# Altium integrated library NSC Interface.IntLib: 481 symbols (part 8 of 16)
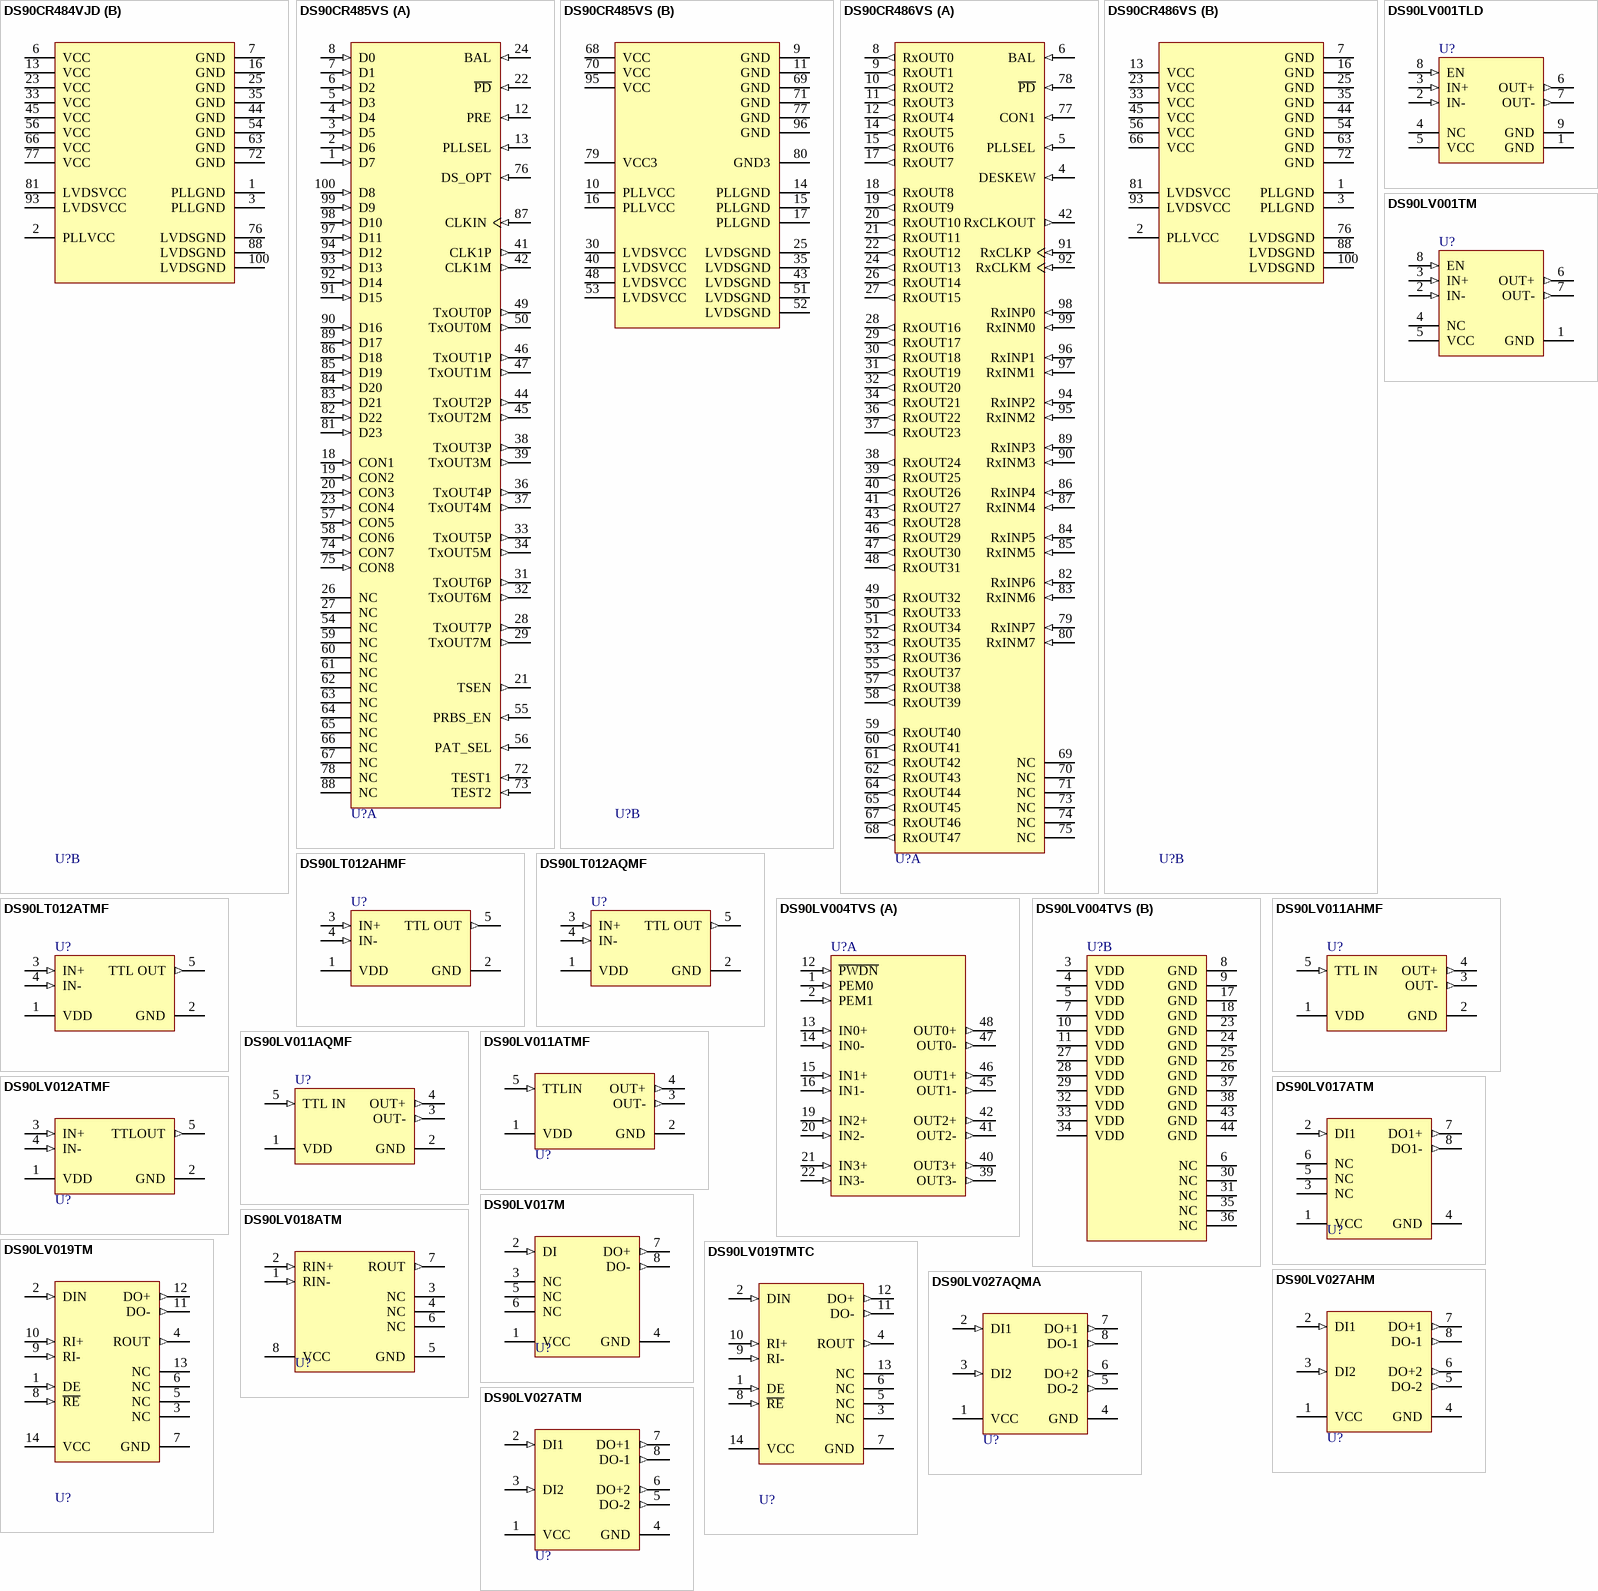
[diagram p47: symbols DS90CR484VJD to DS90LV027ATM]

## DS90LV027ATM
designator U?
LVDS Dual High Speed Differential Driver; PartNumber: DS90LV027ATM; Manufacturer: National Semiconductor; CompType: Interface IC; PackageTopMarking: NSZXTT*LV27A*TM; Published: 4-Dec-2008; DatasheetVersion: Aug-2005; PackageVersion: revL, Sep-2006; PackageReference: M08A; Publisher: Altium Limited; PackageDescription: SOIC Narrow, 4.9 x 3.9 x 1.45mm, 8 Lead, 1.27mm Pitch; RoHS: O; PinCount: 8; DigiKeyPartNumber: DS90LV027ATM-ND; Code_JEDEC: MS-012-AA; Code_IPC: SOIC127P600-8; ComponentLink1Description: DS90LV027A Datasheet; ComponentLink1URL: http://www.national.com/ds/DS/DS90LV027A.pdf; ComponentLink2Description: DS90LV027A Web Page; ComponentLink2URL: http://www.national.com/pf/DS/DS90LV027A.html; ComponentLink3Description: M08A Package Page; ComponentLink3URL: http://www.national.com/packaging/folders/m08a.html
footprint M08A_N (SOIC, 8-Leads, Body 4.9x3.9mm, Pitch 1.27mm, IPC Medium Density)
footprint M08A_L (SOIC, 8-Leads, Body 4.9x3.9mm, Pitch 1.27mm, IPC High Density)
footprint M08A_M (SOIC, 8-Leads, Body 4.9x3.9mm, Pitch 1.27mm, IPC Low Density)
pins: 1 VCC (power), 2 DI1 (in), 3 DI2 (in), 4 GND (power), 5 DO-2 (out), 6 DO+2 (out), 7 DO+1 (out), 8 DO-1 (out)

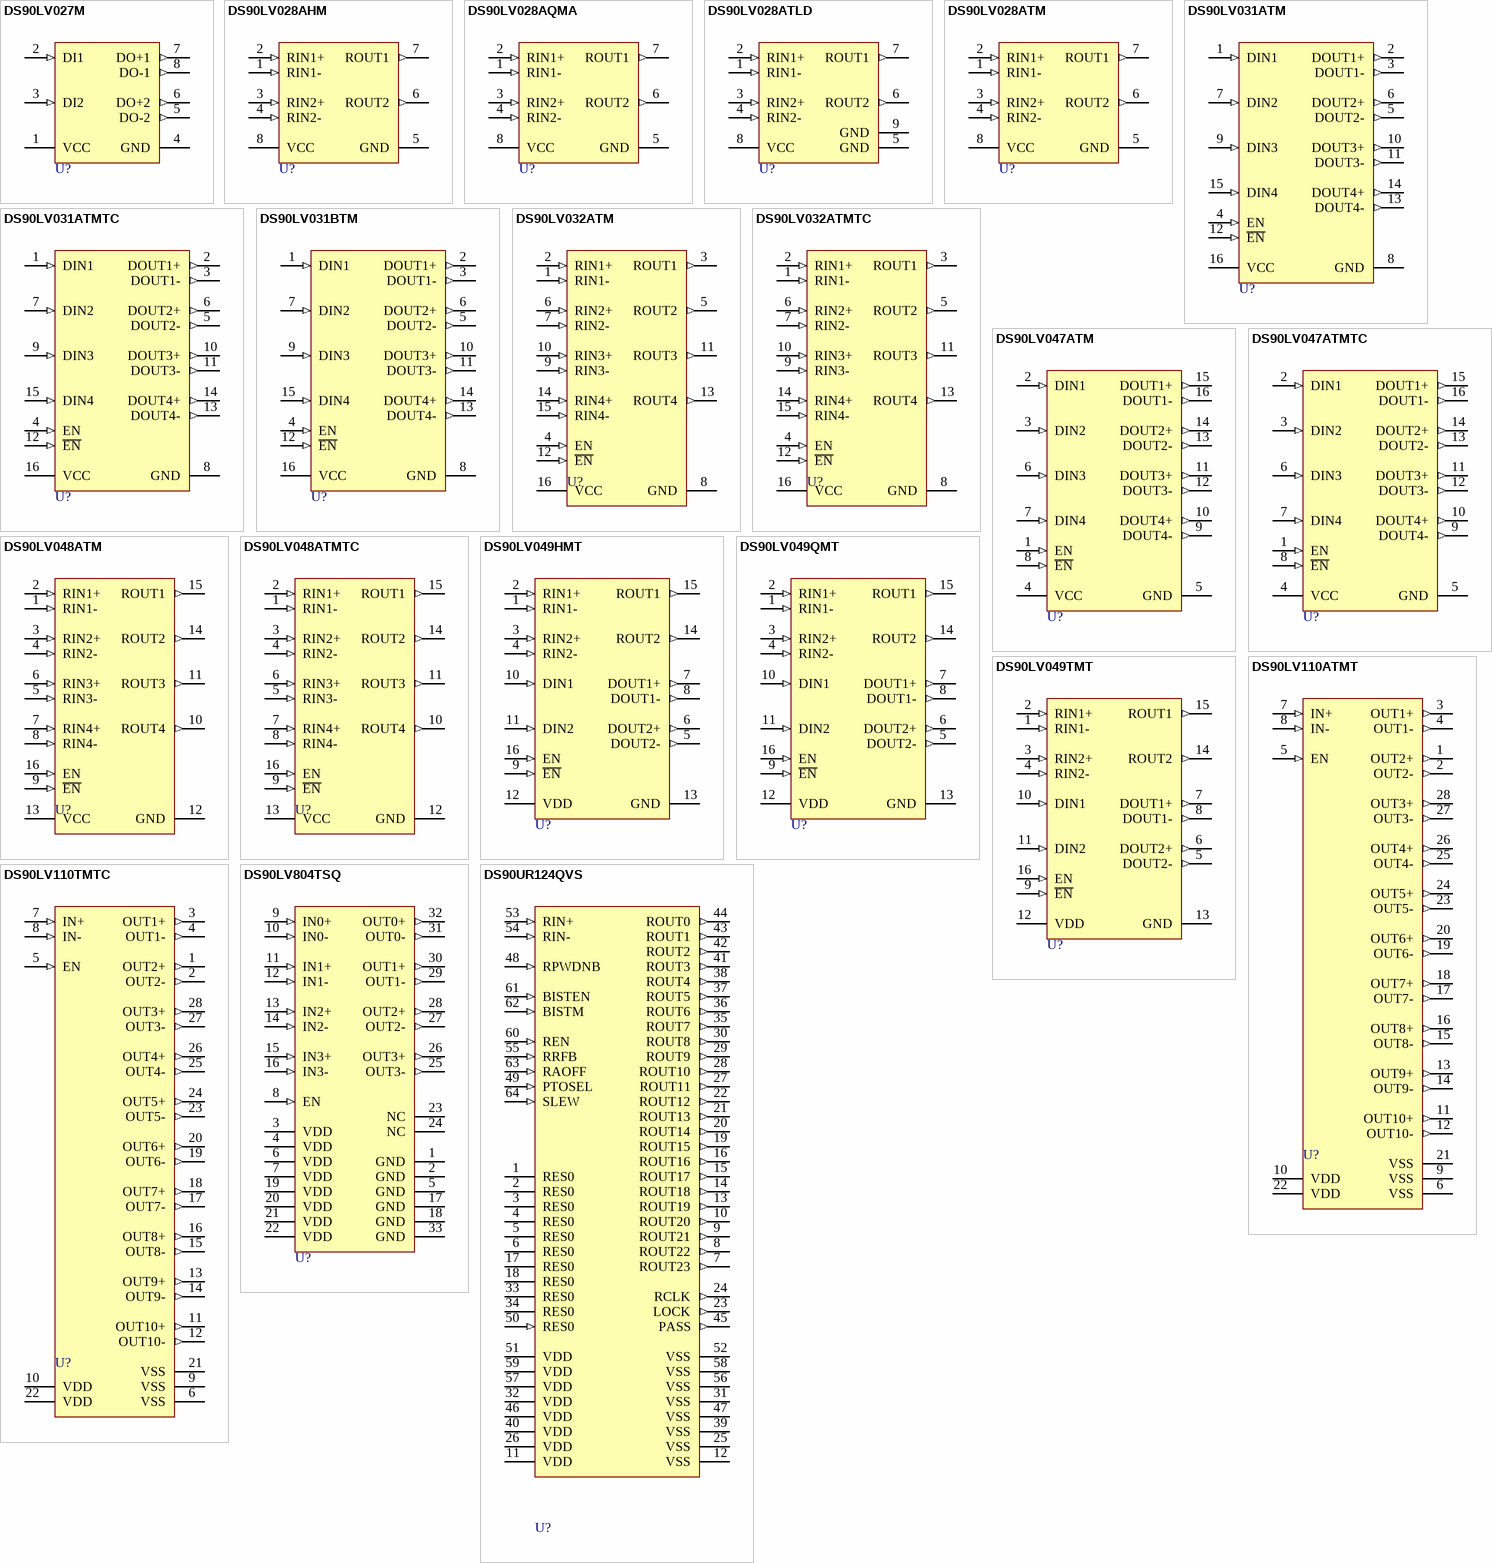
[diagram p21: symbols DS90LV027M to DS90UR124QVS]

## DS90LV027M
designator U?
LVDS Dual High Speed Differential Driver; PartNumber: DS90LV027M; Manufacturer: National Semiconductor; CompType: Interface IC; PackageTopMarking: NSZXTT*90LV*027M; Published: 4-Dec-2008; DatasheetVersion: Aug-2005; PackageVersion: revL, Sep-2006; PackageReference: M08A; Publisher: Altium Limited; PackageDescription: SOIC Narrow, 4.9 x 3.9 x 1.45mm, 8 Lead, 1.27mm Pitch; RoHS: Y; PinCount: 8; DigiKeyPartNumber: DS90LV027M-ND; Code_JEDEC: MS-012-AA; Code_IPC: SOIC127P600-8; ComponentLink1Description: DS90LV027 Datasheet; ComponentLink1URL: http://www.national.com/ds/DS/DS90LV027.pdf; ComponentLink2Description: DS90LV027 Web Page; ComponentLink2URL: http://www.national.com/pf/DS/DS90LV027.html; ComponentLink3Description: M08A Package Page; ComponentLink3URL: http://www.national.com/packaging/folders/m08a.html
footprint M08A_N (SOIC, 8-Leads, Body 4.9x3.9mm, Pitch 1.27mm, IPC Medium Density)
footprint M08A_L (SOIC, 8-Leads, Body 4.9x3.9mm, Pitch 1.27mm, IPC High Density)
footprint M08A_M (SOIC, 8-Leads, Body 4.9x3.9mm, Pitch 1.27mm, IPC Low Density)
pins: 1 VCC (power), 2 DI1 (in), 3 DI2 (in), 4 GND (power), 5 DO-2 (out), 6 DO+2 (out), 7 DO+1 (out), 8 DO-1 (out)

## DS90LV028AHM
designator U?
High Temperature 3V LVDS Dual CMOS Differential Line Receiver; PartNumber: DS90LV028AHM; Manufacturer: National Semiconductor; CompType: Interface IC; PackageTopMarking: NSZXTT*90LV0*28AHM; Published: 4-Dec-2008; DatasheetVersion: Sep-2005; PackageVersion: revL, Sep-2006; PackageReference: M08A; Publisher: Altium Limited; PackageDescription: SOIC Narrow, 4.9 x 3.9 x 1.45mm, 8 Lead, 1.27mm Pitch; RoHS: Y; PinCount: 8; DigiKeyPartNumber: DS90LV028AHM-ND; Code_JEDEC: MS-012-AA; Code_IPC: SOIC127P600-8; ComponentLink1Description: DS90LV028AH Datasheet; ComponentLink1URL: http://www.national.com/ds/DS/DS90LV028AH.pdf; ComponentLink2Description: DS90LV028AH Web Page; ComponentLink2URL: http://www.national.com/pf/DS/DS90LV028AH.html; ComponentLink3Description: M08A Package Page; ComponentLink3URL: http://www.national.com/packaging/folders/m08a.html
footprint M08A_N (SOIC, 8-Leads, Body 4.9x3.9mm, Pitch 1.27mm, IPC Medium Density)
footprint M08A_L (SOIC, 8-Leads, Body 4.9x3.9mm, Pitch 1.27mm, IPC High Density)
footprint M08A_M (SOIC, 8-Leads, Body 4.9x3.9mm, Pitch 1.27mm, IPC Low Density)
pins: 1 RIN1- (in), 2 RIN1+ (in), 3 RIN2+ (in), 4 RIN2- (in), 5 GND (power), 6 ROUT2 (out), 7 ROUT1 (out), 8 VCC (power)

## DS90LV028AQMA
designator U?
Automotive LVDS Dual Differential Line Receiver; PartNumber: DS90LV028AQMA; Manufacturer: National Semiconductor; CompType: Interface IC; PackageTopMarking: NSZXTT*90LV0*28AQM; Published: 4-Dec-2008; DatasheetVersion: Oct-2008; PackageVersion: revL, Sep-2006; PackageReference: M08A; Publisher: Altium Limited; RoHS: Y; PinCount: 8; DigiKeyPartNumber: DS90LV028AQMA-ND; Code_JEDEC: MS-012-AA; Code_IPC: SOIC127P600-8; ComponentLink1Description: DS90LV028AQ Datasheet; ComponentLink1URL: http://www.national.com/ds/DS/DS90LV028AQ.pdf; ComponentLink2Description: DS90LV028AQ Web Page; ComponentLink2URL: http://www.national.com/pf/DS/DS90LV028AQ.html; ComponentLink3Description: M08A Package Page; ComponentLink3URL: http://www.national.com/packaging/folders/m08a.html
footprint M08A_N (SOIC, 8-Leads, Body 4.9x3.9mm, Pitch 1.27mm, IPC Medium Density)
footprint M08A_L (SOIC, 8-Leads, Body 4.9x3.9mm, Pitch 1.27mm, IPC High Density)
footprint M08A_M (SOIC, 8-Leads, Body 4.9x3.9mm, Pitch 1.27mm, IPC Low Density)
pins: 1 RIN1- (in), 2 RIN1+ (in), 3 RIN2+ (in), 4 RIN2- (in), 5 GND (power), 6 ROUT2 (out), 7 ROUT1 (out), 8 VCC (power)

## DS90LV028ATLD
designator U?
3V LVDS Dual CMOS Differential Line Receiver; PartNumber: DS90LV028ATLD; Manufacturer: National Semiconductor; CompType: Interface IC; PackageTopMarking: NS*2ZXYTT*LV028AT; Published: 4-Dec-2008; DatasheetVersion: Aug-2005; PackageVersion: revB, Jun-2003; PackageReference: LDC08A; Publisher: Altium Limited; PackageDescription: LLP, Plastic, Dual, 4 x 4 x 0.75mm Body, 8 Lead, 0.8mm Pitch; RoHS: Y; PinCount: 8; DigiKeyPartNumber: DS90LV028ATLDTR-ND; ComponentLink1Description: DS90LV028A Datasheet; ComponentLink1URL: http://www.national.com/ds/DS/DS90LV028A.pdf; ComponentLink2Description: DS90LV028A Web Page; ComponentLink2URL: http://www.national.com/pf/DS/DS90LV028A.html; ComponentLink3Description: LDC08A Package Page; ComponentLink3URL: http://www.national.com/packaging/folders/ldc08a.html
footprint LDC08A (PSON, 8-Leads, Body 4x4mm, Pitch 0.8mm, NSC Recommended)
pins: 1 RIN1- (in), 2 RIN1+ (in), 3 RIN2+ (in), 4 RIN2- (in), 5 GND (power), 6 ROUT2 (out), 7 ROUT1 (out), 8 VCC (power), 9 GND (power)

## DS90LV028ATM
designator U?
3V LVDS Dual CMOS Differential Line Receiver; PartNumber: DS90LV028ATM; Manufacturer: National Semiconductor; CompType: Interface IC; PackageTopMarking: NSZXTT*90LV0*28ATM; Published: 4-Dec-2008; DatasheetVersion: Aug-2005; PackageVersion: revL, Sep-2006; PackageReference: M08A; Publisher: Altium Limited; PackageDescription: SOIC Narrow, 4.9 x 3.9 x 1.45mm, 8 Lead, 1.27mm Pitch; RoHS: O; PinCount: 8; DigiKeyPartNumber: DS90LV028ATM-ND; Code_JEDEC: MS-012-AA; Code_IPC: SOIC127P600-8; ComponentLink1Description: DS90LV028A Datasheet; ComponentLink1URL: http://www.national.com/ds/DS/DS90LV028A.pdf; ComponentLink2Description: DS90LV028A Web Page; ComponentLink2URL: http://www.national.com/pf/DS/DS90LV028A.html; ComponentLink3Description: M08A Package Page; ComponentLink3URL: http://www.national.com/packaging/folders/m08a.html
footprint M08A_N (SOIC, 8-Leads, Body 4.9x3.9mm, Pitch 1.27mm, IPC Medium Density)
footprint M08A_L (SOIC, 8-Leads, Body 4.9x3.9mm, Pitch 1.27mm, IPC High Density)
footprint M08A_M (SOIC, 8-Leads, Body 4.9x3.9mm, Pitch 1.27mm, IPC Low Density)
pins: 1 RIN1- (in), 2 RIN1+ (in), 3 RIN2+ (in), 4 RIN2- (in), 5 GND (power), 6 ROUT2 (out), 7 ROUT1 (out), 8 VCC (power)

## DS90LV031ATM
designator U?
3V LVDS Quad CMOS Differential Line Driver; PartNumber: DS90LV031ATM; Manufacturer: National Semiconductor; CompType: Interface IC; PackageTopMarking: NS2ZXYTT*DS90LV031A*TM; Published: 4-Dec-2008; DatasheetVersion: Jul-1999; PackageVersion: revJ, Aug-1995; PackageReference: M16A; Publisher: Altium Limited; PackageDescription: Molded Package, S.O., .150in Wide, 16 Lead; RoHS: O; PinCount: 16; DigiKeyPartNumber: DS90LV031ATM-ND; Code_JEDEC: MS-012-AC; Code_IPC: SOIC127P600-16; ComponentLink1Description: DS90LV031A Datasheet; ComponentLink1URL: http://www.national.com/ds/DS/DS90LV031A.pdf; ComponentLink2Description: DS90LV031A Web Page; ComponentLink2URL: http://www.national.com/pf/DS/DS90LV031A.html; ComponentLink3Description: M16A Package Page; ComponentLink3URL: http://www.national.com/packaging/folders/m16a.html
footprint M16A_N (SOIC, 16-Leads, Body 9.9x3.9mm, Pitch 1.27mm, IPC Medium Density)
footprint M16A_L (SOIC, 16-Leads, Body 9.9x3.9mm, Pitch 1.27mm, IPC High Density)
footprint M16A_M (SOIC, 16-Leads, Body 9.9x3.9mm, Pitch 1.27mm, IPC Low Density)
pins: 1 DIN1 (in), 2 DOUT1+ (out), 3 DOUT1- (out), 4 EN (in), 5 DOUT2- (out), 6 DOUT2+ (out), 7 DIN2 (in), 8 GND (power), 9 DIN3 (in), 10 DOUT3+ (out), 11 DOUT3- (out), 12 ~{EN} (in), 13 DOUT4- (out), 14 DOUT4+ (out), 15 DIN4 (in), 16 VCC (power)

## DS90LV031ATMTC
designator U?
3V LVDS Quad CMOS Differential Line Driver; PartNumber: DS90LV031ATMTC; Manufacturer: National Semiconductor; CompType: Interface IC; PackageTopMarking: NS2ZXYTT*DS90LV*031AT; Published: 4-Dec-2008; DatasheetVersion: Jul-1999; PackageVersion: revD, Jun-2003; PackageReference: MTC16; Publisher: Altium Limited; PackageDescription: Molded TSSOP, Jedec, 5 x 4.4 x 0.9mm Body, 16 Lead, 0.65mm Pitch; RoHS: O; PinCount: 16; DigiKeyPartNumber: DS90LV031ATMTC-ND; Code_JEDEC: MO-153-AB; ComponentLink1Description: DS90LV031A Datasheet; ComponentLink1URL: http://www.national.com/ds/DS/DS90LV031A.pdf; ComponentLink2Description: DS90LV031A Web Page; ComponentLink2URL: http://www.national.com/pf/DS/DS90LV031A.html; ComponentLink3Description: MTC16 Package Page; ComponentLink3URL: http://www.national.com/packaging/folders/mtc16.html
footprint MTC16_N (TSOP, 16-Leads, Body 5x4.4mm, Pitch 0.65mm, IPC Medium Density)
footprint MTC16_L (TSOP, 16-Leads, Body 5x4.4mm, Pitch 0.65mm, IPC High Density)
footprint MTC16_M (TSOP, 16-Leads, Body 5x4.4mm, Pitch 0.65mm, IPC Low Density)
pins: 1 DIN1 (in), 2 DOUT1+ (out), 3 DOUT1- (out), 4 EN (in), 5 DOUT2- (out), 6 DOUT2+ (out), 7 DIN2 (in), 8 GND (power), 9 DIN3 (in), 10 DOUT3+ (out), 11 DOUT3- (out), 12 ~{EN} (in), 13 DOUT4- (out), 14 DOUT4+ (out), 15 DIN4 (in), 16 VCC (power)

## DS90LV031BTM
designator U?
3V LVDS Quad CMOS Differential Line Driver; PartNumber: DS90LV031BTM; Manufacturer: National Semiconductor; CompType: Interface IC; PackageTopMarking: NS2ZXYTT*DS90LV031B*TM; Published: 4-Dec-2008; DatasheetVersion: Apr-2008; PackageVersion: revJ, Aug-1995; PackageReference: M16A; Publisher: Altium Limited; PackageDescription: Molded Package, S.O., .150in Wide, 16 Lead; RoHS: O; PinCount: 16; DigiKeyPartNumber: DS90LV031BTM-ND; Code_JEDEC: MS-012-AC; Code_IPC: SOIC127P600-16; ComponentLink1Description: DS90LV031B Datasheet; ComponentLink1URL: http://www.national.com/ds/DS/DS90LV031B.pdf; ComponentLink2Description: DS90LV031B Web Page; ComponentLink2URL: http://www.national.com/pf/DS/DS90LV031B.html; ComponentLink3Description: M16A Package Page; ComponentLink3URL: http://www.national.com/packaging/folders/m16a.html
footprint M16A_N (SOIC, 16-Leads, Body 9.9x3.9mm, Pitch 1.27mm, IPC Medium Density)
footprint M16A_L (SOIC, 16-Leads, Body 9.9x3.9mm, Pitch 1.27mm, IPC High Density)
footprint M16A_M (SOIC, 16-Leads, Body 9.9x3.9mm, Pitch 1.27mm, IPC Low Density)
pins: 1 DIN1 (in), 2 DOUT1+ (out), 3 DOUT1- (out), 4 EN (in), 5 DOUT2- (out), 6 DOUT2+ (out), 7 DIN2 (in), 8 GND (power), 9 DIN3 (in), 10 DOUT3+ (out), 11 DOUT3- (out), 12 ~{EN} (in), 13 DOUT4- (out), 14 DOUT4+ (out), 15 DIN4 (in), 16 VCC (power)

## DS90LV032ATM
designator U?
3V LVDS Quad CMOS Differential Line Receiver; PartNumber: DS90LV032ATM; Manufacturer: National Semiconductor; CompType: Interface IC; PackageTopMarking: NS2ZXYTT*DS90LV032A*TM; Published: 4-Dec-2008; DatasheetVersion: Jul-1999; PackageVersion: revJ, Aug-1995; PackageReference: M16A; Publisher: Altium Limited; PackageDescription: Molded Package, S.O., .150in Wide, 16 Lead; RoHS: O; PinCount: 16; DigiKeyPartNumber: DS90LV032ATM-ND; Code_JEDEC: MS-012-AC; Code_IPC: SOIC127P600-16; ComponentLink1Description: DS90LV032A Datasheet; ComponentLink1URL: http://www.national.com/ds/DS/DS90LV032A.pdf; ComponentLink2Description: DS90LV032A Web Page; ComponentLink2URL: http://www.national.com/pf/DS/DS90LV032A.html; ComponentLink3Description: M16A Package Page; ComponentLink3URL: http://www.national.com/packaging/folders/m16a.html
footprint M16A_N (SOIC, 16-Leads, Body 9.9x3.9mm, Pitch 1.27mm, IPC Medium Density)
footprint M16A_L (SOIC, 16-Leads, Body 9.9x3.9mm, Pitch 1.27mm, IPC High Density)
footprint M16A_M (SOIC, 16-Leads, Body 9.9x3.9mm, Pitch 1.27mm, IPC Low Density)
pins: 1 RIN1- (in), 2 RIN1+ (in), 3 ROUT1 (out), 4 EN (in), 5 ROUT2 (out), 6 RIN2+ (in), 7 RIN2- (in), 8 GND (power), 9 RIN3- (in), 10 RIN3+ (in), 11 ROUT3 (out), 12 ~{EN} (in), 13 ROUT4 (out), 14 RIN4+ (in), 15 RIN4- (in), 16 VCC (power)

## DS90LV032ATMTC
designator U?
3V LVDS Quad CMOS Differential Line Receiver; PartNumber: DS90LV032ATMTC; Manufacturer: National Semiconductor; CompType: Interface IC; PackageTopMarking: NS2ZXYTT*DS90LV*032AT; Published: 4-Dec-2008; DatasheetVersion: Jul-1999; PackageVersion: revD, Jun-2003; PackageReference: MTC16; Publisher: Altium Limited; PackageDescription: Molded TSSOP, Jedec, 5 x 4.4 x 0.9mm Body, 16 Lead, 0.65mm Pitch; RoHS: O; PinCount: 16; DigiKeyPartNumber: DS90LV032ATMTC-ND; Code_JEDEC: MO-153-AB; ComponentLink1Description: DS90LV032A Datasheet; ComponentLink1URL: http://www.national.com/ds/DS/DS90LV032A.pdf; ComponentLink2Description: DS90LV032A Web Page; ComponentLink2URL: http://www.national.com/pf/DS/DS90LV032A.html; ComponentLink3Description: MTC16 Package Page; ComponentLink3URL: http://www.national.com/packaging/folders/mtc16.html
footprint MTC16_N (TSOP, 16-Leads, Body 5x4.4mm, Pitch 0.65mm, IPC Medium Density)
footprint MTC16_L (TSOP, 16-Leads, Body 5x4.4mm, Pitch 0.65mm, IPC High Density)
footprint MTC16_M (TSOP, 16-Leads, Body 5x4.4mm, Pitch 0.65mm, IPC Low Density)
pins: 1 RIN1- (in), 2 RIN1+ (in), 3 ROUT1 (out), 4 EN (in), 5 ROUT2 (out), 6 RIN2+ (in), 7 RIN2- (in), 8 GND (power), 9 RIN3- (in), 10 RIN3+ (in), 11 ROUT3 (out), 12 ~{EN} (in), 13 ROUT4 (out), 14 RIN4+ (in), 15 RIN4- (in), 16 VCC (power)

## DS90LV047ATM
designator U?
3V LVDS Quad CMOS Differential Line Driver; PartNumber: DS90LV047ATM; Manufacturer: National Semiconductor; CompType: Interface IC; PackageTopMarking: NS2ZXYTT*DS90LV047A*TM; Published: 4-Dec-2008; DatasheetVersion: Jan-2003; PackageVersion: revJ, Aug-1995; PackageReference: M16A; Publisher: Altium Limited; PackageDescription: Molded Package, S.O., .150in Wide, 16 Lead; RoHS: O; PinCount: 16; DigiKeyPartNumber: DS90LV047ATM/DRSN-ND; Code_JEDEC: MS-012-AC; Code_IPC: SOIC127P600-16; ComponentLink1Description: DS90LV047A Datasheet; ComponentLink1URL: http://www.national.com/ds/DS/DS90LV047A.pdf; ComponentLink2Description: DS90LV047A Web Page; ComponentLink2URL: http://www.national.com/pf/DS/DS90LV047A.html; ComponentLink3Description: M16A Package Page; ComponentLink3URL: http://www.national.com/packaging/folders/m16a.html
footprint M16A_N (SOIC, 16-Leads, Body 9.9x3.9mm, Pitch 1.27mm, IPC Medium Density)
footprint M16A_L (SOIC, 16-Leads, Body 9.9x3.9mm, Pitch 1.27mm, IPC High Density)
footprint M16A_M (SOIC, 16-Leads, Body 9.9x3.9mm, Pitch 1.27mm, IPC Low Density)
pins: 1 EN (in), 2 DIN1 (in), 3 DIN2 (in), 4 VCC (power), 5 GND (power), 6 DIN3 (in), 7 DIN4 (in), 8 ~{EN} (in), 9 DOUT4- (out), 10 DOUT4+ (out), 11 DOUT3+ (out), 12 DOUT3- (out), 13 DOUT2- (out), 14 DOUT2+ (out), 15 DOUT1+ (out), 16 DOUT1- (out)

## DS90LV047ATMTC
designator U?
3V LVDS Quad CMOS Differential Line Driver; PartNumber: DS90LV047ATMTC; Manufacturer: National Semiconductor; CompType: Interface IC; PackageTopMarking: NS2ZXYTT*DS90LV*047AT; Published: 4-Dec-2008; DatasheetVersion: Jan-2003; PackageVersion: revD, Jun-2003; PackageReference: MTC16; Publisher: Altium Limited; PackageDescription: Molded TSSOP, Jedec, 5 x 4.4 x 0.9mm Body, 16 Lead, 0.65mm Pitch; RoHS: O; PinCount: 16; DigiKeyPartNumber: DS90LV047ATMTC/DRPB-; Code_JEDEC: MO-153-AB; ComponentLink1Description: DS90LV047A Datasheet; ComponentLink1URL: http://www.national.com/ds/DS/DS90LV047A.pdf; ComponentLink2Description: DS90LV047A Web Page; ComponentLink2URL: http://www.national.com/pf/DS/DS90LV047A.html; ComponentLink3Description: MTC16 Package Page; ComponentLink3URL: http://www.national.com/packaging/folders/mtc16.html
footprint MTC16_N (TSOP, 16-Leads, Body 5x4.4mm, Pitch 0.65mm, IPC Medium Density)
footprint MTC16_L (TSOP, 16-Leads, Body 5x4.4mm, Pitch 0.65mm, IPC High Density)
footprint MTC16_M (TSOP, 16-Leads, Body 5x4.4mm, Pitch 0.65mm, IPC Low Density)
pins: 1 EN (in), 2 DIN1 (in), 3 DIN2 (in), 4 VCC (power), 5 GND (power), 6 DIN3 (in), 7 DIN4 (in), 8 ~{EN} (in), 9 DOUT4- (out), 10 DOUT4+ (out), 11 DOUT3+ (out), 12 DOUT3- (out), 13 DOUT2- (out), 14 DOUT2+ (out), 15 DOUT1+ (out), 16 DOUT1- (out)

## DS90LV048ATM
designator U?
3V LVDS Quad CMOS Differential Line Receiver; PartNumber: DS90LV048ATM; Manufacturer: National Semiconductor; CompType: Interface IC; PackageTopMarking: NS2ZXYTT*DS90LV048A*TM; Published: 4-Dec-2008; DatasheetVersion: May-2001; PackageVersion: revJ, Aug-1995; PackageReference: M16A; Publisher: Altium Limited; PackageDescription: Molded Package, S.O., .150in Wide, 16 Lead; RoHS: O; PinCount: 16; DigiKeyPartNumber: DS90LV048ATM/DRSN-ND; Code_JEDEC: MS-012-AC; Code_IPC: SOIC127P600-16; ComponentLink1Description: DS90LV048A Datasheet; ComponentLink1URL: http://www.national.com/ds/DS/DS90LV048A.pdf; ComponentLink2Description: DS90LV048A Web Page; ComponentLink2URL: http://www.national.com/pf/DS/DS90LV048A.html; ComponentLink3Description: M16A Package Page; ComponentLink3URL: http://www.national.com/packaging/folders/m16a.html
footprint M16A_N (SOIC, 16-Leads, Body 9.9x3.9mm, Pitch 1.27mm, IPC Medium Density)
footprint M16A_L (SOIC, 16-Leads, Body 9.9x3.9mm, Pitch 1.27mm, IPC High Density)
footprint M16A_M (SOIC, 16-Leads, Body 9.9x3.9mm, Pitch 1.27mm, IPC Low Density)
pins: 1 RIN1- (in), 2 RIN1+ (in), 3 RIN2+ (in), 4 RIN2- (in), 5 RIN3- (in), 6 RIN3+ (in), 7 RIN4+ (in), 8 RIN4- (in), 9 ~{EN} (in), 10 ROUT4 (out), 11 ROUT3 (out), 12 GND (power), 13 VCC (power), 14 ROUT2 (out), 15 ROUT1 (out), 16 EN (in)

## DS90LV048ATMTC
designator U?
3V LVDS Quad CMOS Differential Line Receiver; PartNumber: DS90LV048ATMTC; Manufacturer: National Semiconductor; CompType: Interface IC; PackageTopMarking: NS2ZXYTT*DS90LV*048AT; Published: 4-Dec-2008; DatasheetVersion: May-2001; PackageVersion: revD, Jun-2003; PackageReference: MTC16; Publisher: Altium Limited; PackageDescription: Molded TSSOP, Jedec, 5 x 4.4 x 0.9mm Body, 16 Lead, 0.65mm Pitch; RoHS: O; PinCount: 16; DigiKeyPartNumber: DS90LV048ATMTC/DRSN-; Code_JEDEC: MO-153-AB; ComponentLink1Description: DS90LV048A Datasheet; ComponentLink1URL: http://www.national.com/ds/DS/DS90LV048A.pdf; ComponentLink2Description: DS90LV048A Web Page; ComponentLink2URL: http://www.national.com/pf/DS/DS90LV048A.html; ComponentLink3Description: MTC16 Package Page; ComponentLink3URL: http://www.national.com/packaging/folders/mtc16.html
footprint MTC16_N (TSOP, 16-Leads, Body 5x4.4mm, Pitch 0.65mm, IPC Medium Density)
footprint MTC16_L (TSOP, 16-Leads, Body 5x4.4mm, Pitch 0.65mm, IPC High Density)
footprint MTC16_M (TSOP, 16-Leads, Body 5x4.4mm, Pitch 0.65mm, IPC Low Density)
pins: 1 RIN1- (in), 2 RIN1+ (in), 3 RIN2+ (in), 4 RIN2- (in), 5 RIN3- (in), 6 RIN3+ (in), 7 RIN4+ (in), 8 RIN4- (in), 9 ~{EN} (in), 10 ROUT4 (out), 11 ROUT3 (out), 12 GND (power), 13 VCC (power), 14 ROUT2 (out), 15 ROUT1 (out), 16 EN (in)

## DS90LV049HMT
designator U?
High Temperature 3V LVDS Dual Line Driver and Receiver Pair; PartNumber: DS90LV049HMT; Manufacturer: National Semiconductor; CompType: Interface IC; PackageTopMarking: NSUZXYTT*90LV049*HMT; Published: 4-Dec-2008; DatasheetVersion: Sep-2005; PackageVersion: revD, Jun-2003; PackageReference: MTC16; Publisher: Altium Limited; PackageDescription: Molded TSSOP, Jedec, 5 x 4.4 x 0.9mm Body, 16 Lead, 0.65mm Pitch; RoHS: Y; PinCount: 16; DigiKeyPartNumber: DS90LV049HMTXTR-ND; Code_JEDEC: MO-153-AB; ComponentLink1Description: DS90LV049H Datasheet; ComponentLink1URL: http://www.national.com/ds/DS/DS90LV049H.pdf; ComponentLink2Description: DS90LV049H Web Page; ComponentLink2URL: http://www.national.com/pf/DS/DS90LV049H.html; ComponentLink3Description: MTC16 Package Page; ComponentLink3URL: http://www.national.com/packaging/folders/mtc16.html
footprint MTC16_N (TSOP, 16-Leads, Body 5x4.4mm, Pitch 0.65mm, IPC Medium Density)
footprint MTC16_L (TSOP, 16-Leads, Body 5x4.4mm, Pitch 0.65mm, IPC High Density)
footprint MTC16_M (TSOP, 16-Leads, Body 5x4.4mm, Pitch 0.65mm, IPC Low Density)
pins: 1 RIN1- (in), 2 RIN1+ (in), 3 RIN2+ (in), 4 RIN2- (in), 5 DOUT2- (out), 6 DOUT2+ (out), 7 DOUT1+ (out), 8 DOUT1- (out), 9 ~{EN} (in), 10 DIN1 (in), 11 DIN2 (in), 12 VDD (power), 13 GND (power), 14 ROUT2 (out), 15 ROUT1 (out), 16 EN (in)

## DS90LV049QMT
designator U?
Automotive LVDS Dual Line Driver and Receiver Pair; PartNumber: DS90LV049QMT; Manufacturer: National Semiconductor; CompType: Interface IC; PackageTopMarking: NSUZXYTT*90LV049*QMT; Published: 4-Dec-2008; DatasheetVersion: Jul-2008; PackageVersion: revD, Jun-2003; PackageReference: MTC16; Publisher: Altium Limited; RoHS: Y; PinCount: 16; DigiKeyPartNumber: DS90LV049QMT-ND; Code_JEDEC: MO-153-AB; ComponentLink1Description: DS90LV049Q Datasheet; ComponentLink1URL: http://www.national.com/ds/DS/DS90LV049Q.pdf; ComponentLink2Description: DS90LV049Q Web Page; ComponentLink2URL: http://www.national.com/pf/DS/DS90LV049Q.html; ComponentLink3Description: MTC16 Package Page; ComponentLink3URL: http://www.national.com/packaging/folders/mtc16.html
footprint MTC16_N (TSOP, 16-Leads, Body 5x4.4mm, Pitch 0.65mm, IPC Medium Density)
footprint MTC16_L (TSOP, 16-Leads, Body 5x4.4mm, Pitch 0.65mm, IPC High Density)
footprint MTC16_M (TSOP, 16-Leads, Body 5x4.4mm, Pitch 0.65mm, IPC Low Density)
pins: 1 RIN1- (in), 2 RIN1+ (in), 3 RIN2+ (in), 4 RIN2- (in), 5 DOUT2- (out), 6 DOUT2+ (out), 7 DOUT1+ (out), 8 DOUT1- (out), 9 ~{EN} (in), 10 DIN1 (in), 11 DIN2 (in), 12 VDD (power), 13 GND (power), 14 ROUT2 (out), 15 ROUT1 (out), 16 EN (in)

## DS90LV049TMT
designator U?
3V LVDS Dual Line Driver with Dual Line Receiver; PartNumber: DS90LV049TMT; Manufacturer: National Semiconductor; CompType: Interface IC; PackageTopMarking: NSZXYTT*90LV049*TMT; Published: 4-Dec-2008; DatasheetVersion: Mar-2003; PackageVersion: revD, Jun-2003; PackageReference: MTC16; Publisher: Altium Limited; PackageDescription: Molded TSSOP, Jedec, 5 x 4.4 x 0.9mm Body, 16 Lead, 0.65mm Pitch; RoHS: O; PinCount: 16; DigiKeyPartNumber: DS90LV049TMT-ND; Code_JEDEC: MO-153-AB; ComponentLink1Description: DS90LV049 Datasheet; ComponentLink1URL: http://www.national.com/ds/DS/DS90LV049.pdf; ComponentLink2Description: DS90LV049 Web Page; ComponentLink2URL: http://www.national.com/pf/DS/DS90LV049.html; ComponentLink3Description: MTC16 Package Page; ComponentLink3URL: http://www.national.com/packaging/folders/mtc16.html
footprint MTC16_N (TSOP, 16-Leads, Body 5x4.4mm, Pitch 0.65mm, IPC Medium Density)
footprint MTC16_L (TSOP, 16-Leads, Body 5x4.4mm, Pitch 0.65mm, IPC High Density)
footprint MTC16_M (TSOP, 16-Leads, Body 5x4.4mm, Pitch 0.65mm, IPC Low Density)
pins: 1 RIN1- (in), 2 RIN1+ (in), 3 RIN2+ (in), 4 RIN2- (in), 5 DOUT2- (out), 6 DOUT2+ (out), 7 DOUT1+ (out), 8 DOUT1- (out), 9 ~{EN} (in), 10 DIN1 (in), 11 DIN2 (in), 12 VDD (power), 13 GND (power), 14 ROUT2 (out), 15 ROUT1 (out), 16 EN (in)

## DS90LV110ATMT
designator U?
1 to 10 LVDS Data/Clock Distributor with Failsafe; PartNumber: DS90LV110ATMT; Manufacturer: National Semiconductor; CompType: Interface IC; PackageTopMarking: NSUZXYTT*DS90LV*110ATMT; Published: 4-Dec-2008; DatasheetVersion: Oct-2007; PackageVersion: revD, Jan-2005; PackageReference: MTC28; Publisher: Altium Limited; PackageDescription: Molded TSSOP, Jedec, 9.7 x 4.4 x 0.9mm Body, 28 Lead, 0.65mm Pitch; RoHS: O; PinCount: 28; DigiKeyPartNumber: DS90LV110ATMT-ND; Code_JEDEC: MO-153-AE; ComponentLink1Description: DS90LV110AT Datasheet; ComponentLink1URL: http://www.national.com/ds/DS/DS90LV110AT.pdf; ComponentLink2Description: DS90LV110AT Web Page; ComponentLink2URL: http://www.national.com/pf/DS/DS90LV110AT.html; ComponentLink3Description: MTC28 Package Page; ComponentLink3URL: http://www.national.com/packaging/folders/mtc28.html
footprint MTC28_N (TSOP, 28-Leads, Body 9.7x4.4mm, Pitch 0.65mm, IPC Medium Density)
footprint MTC28_L (TSOP, 28-Leads, Body 9.7x4.4mm, Pitch 0.65mm, IPC High Density)
footprint MTC28_M (TSOP, 28-Leads, Body 9.7x4.4mm, Pitch 0.65mm, IPC Low Density)
pins: 1 OUT2+ (out), 2 OUT2- (out), 3 OUT1+ (out), 4 OUT1- (out), 5 EN (in), 6 VSS (power), 7 IN+ (in), 8 IN- (in), 9 VSS (power), 10 VDD (power), 11 OUT10+ (out), 12 OUT10- (out), 13 OUT9+ (out), 14 OUT9- (out), 15 OUT8- (out), 16 OUT8+ (out), 17 OUT7- (out), 18 OUT7+ (out), 19 OUT6- (out), 20 OUT6+ (out), 21 VSS (power), 22 VDD (power), 23 OUT5- (out), 24 OUT5+ (out), 25 OUT4- (out), 26 OUT4+ (out), 27 OUT3- (out), 28 OUT3+ (out)

## DS90LV110TMTC
designator U?
1 to 10 LVDS Data/Clock Distributor; PartNumber: DS90LV110TMTC; Manufacturer: National Semiconductor; CompType: Interface IC; PackageTopMarking: NSUZXYTT*DS90LV*110TMTC; Published: 4-Dec-2008; DatasheetVersion: May-2007; PackageVersion: revD, Jan-2005; PackageReference: MTC28; Publisher: Altium Limited; PackageDescription: Molded TSSOP, Jedec, 9.7 x 4.4 x 0.9mm Body, 28 Lead, 0.65mm Pitch; RoHS: O; PinCount: 28; DigiKeyPartNumber: DS90LV110TMTC-ND; Code_JEDEC: MO-153-AE; ComponentLink1Description: DS90LV110T Datasheet; ComponentLink1URL: http://www.national.com/ds/DS/DS90LV110T.pdf; ComponentLink2Description: DS90LV110T Web Page; ComponentLink2URL: http://www.national.com/pf/DS/DS90LV110T.html; ComponentLink3Description: MTC28 Package Page; ComponentLink3URL: http://www.national.com/packaging/folders/mtc28.html
footprint MTC28_N (TSOP, 28-Leads, Body 9.7x4.4mm, Pitch 0.65mm, IPC Medium Density)
footprint MTC28_L (TSOP, 28-Leads, Body 9.7x4.4mm, Pitch 0.65mm, IPC High Density)
footprint MTC28_M (TSOP, 28-Leads, Body 9.7x4.4mm, Pitch 0.65mm, IPC Low Density)
pins: 1 OUT2+ (out), 2 OUT2- (out), 3 OUT1+ (out), 4 OUT1- (out), 5 EN (in), 6 VSS (power), 7 IN+ (in), 8 IN- (in), 9 VSS (power), 10 VDD (power), 11 OUT10+ (out), 12 OUT10- (out), 13 OUT9+ (out), 14 OUT9- (out), 15 OUT8- (out), 16 OUT8+ (out), 17 OUT7- (out), 18 OUT7+ (out), 19 OUT6- (out), 20 OUT6+ (out), 21 VSS (power), 22 VDD (power), 23 OUT5- (out), 24 OUT5+ (out), 25 OUT4- (out), 26 OUT4+ (out), 27 OUT3- (out), 28 OUT3+ (out)

## DS90LV804TSQ
designator U?
Four-Channel 800 Mbps LVDS Repeater; PartNumber: DS90LV804TSQ; Manufacturer: National Semiconductor; CompType: Interface IC; PackageTopMarking: NS*UZXYTT*804TSQ; Published: 4-Dec-2008; DatasheetVersion: May-2007; PackageVersion: revA, Jul-2004; PackageReference: SQA32A; Publisher: Altium Limited; PackageDescription: LLP, Quad, 5 x 5 x 0.8mm, 32 Lead, 0.5mm Pitch, No Pullback, 3.1 x 3.1mm Exposed Pad; RoHS: Y; PinCount: 32; DigiKeyPartNumber: DS90LV804TSQTR-ND; ComponentLink1Description: DS90LV804 Datasheet; ComponentLink1URL: http://www.national.com/ds/DS/DS90LV804.pdf; ComponentLink2Description: DS90LV804 Web Page; ComponentLink2URL: http://www.national.com/pf/DS/DS90LV804.html; ComponentLink3Description: SQA32A Package Page; ComponentLink3URL: http://www.national.com/packaging/folders/sqa32a.html
footprint SQA32A (QFN, 32-Leads, Body 5x5mm, Pitch 0.5mm, NSC Recommended)
pins: 1 GND (power), 2 GND (power), 3 VDD (power), 4 VDD (power), 5 GND (power), 6 VDD (power), 7 VDD (power), 8 EN (in), 9 IN0+ (in), 10 IN0- (in), 11 IN1+ (in), 12 IN1- (in), 13 IN2+ (in), 14 IN2- (in), 15 IN3+ (in), 16 IN3- (in), 17 GND (power), 18 GND (power), 19 VDD (power), 20 VDD (power), 21 VDD (power), 22 VDD (power), 23 NC, 24 NC, 25 OUT3- (out), 26 OUT3+ (out), 27 OUT2- (out), 28 OUT2+ (out), 29 OUT1- (out), 30 OUT1+ (out), 31 OUT0- (out), 32 OUT0+ (out), 33 GND (power)

## DS90UR124QVS
designator U?
5-43MHz DC- Balanced 24-Bit LVDS Deserializer; PartNumber: DS90UR124QVS; Manufacturer: National Semiconductor; CompType: Interface IC; PackageTopMarking: NSUZXYYTT*DS90UR124*QVS; Published: 4-Dec-2008; DatasheetVersion: Jan-2008; PackageVersion: revB, Jul-2003; PackageReference: VEC64A; Publisher: Altium Limited; PackageDescription: TQFP, Jedec Metric, 10 x 10 x 1.0mm, 64 Lead, 0.5mm Pitch; RoHS: Y; PinCount: 64; Code_JEDEC: MS-026-ACD; ComponentLink1Description: DS90UR124 Datasheet; ComponentLink1URL: http://www.national.com/ds/DS/DS90UR124.pdf; ComponentLink2Description: DS90UR124 Web Page; ComponentLink2URL: http://www.national.com/pf/DS/DS90UR124.html; ComponentLink3Description: VEC64A Package Page; ComponentLink3URL: http://www.national.com/packaging/folders/vec64a.html
footprint VEC64A_N (Thin QFP, 64-Leads, Body 10x10mm, Pitch 0.5mm, IPC Medium Density)
footprint VEC64A_L (Thin QFP, 64-Leads, Body 10x10mm, Pitch 0.5mm, IPC High Density)
footprint VEC64A_M (Thin QFP, 64-Leads, Body 10x10mm, Pitch 0.5mm, IPC Low Density)
pins: 1 RES0, 2 RES0, 3 RES0, 4 RES0, 5 RES0, 6 RES0, 7 ROUT23 (out), 8 ROUT22 (out), 9 ROUT21 (out), 10 ROUT20 (out), 11 VDD (power), 12 VSS (power), 13 ROUT19 (out), 14 ROUT18 (out), 15 ROUT17 (out), 16 ROUT16 (out), 17 RES0, 18 RES0, 19 ROUT15 (out), 20 ROUT14 (out), 21 ROUT13 (out), 22 ROUT12 (out), 23 LOCK (out), 24 RCLK (out), 25 VSS (power), 26 VDD (power), 27 ROUT11 (out), 28 ROUT10 (out), 29 ROUT9 (out), 30 ROUT8 (out), 31 VSS (power), 32 VDD (power), 33 RES0, 34 RES0, 35 ROUT7 (out), 36 ROUT6 (out), 37 ROUT5 (out), 38 ROUT4 (out), 39 VSS (power), 40 VDD (power), 41 ROUT3 (out), 42 ROUT2 (out), 43 ROUT1 (out), 44 ROUT0 (out), 45 PASS (out), 46 VDD (power), 47 VSS (power), 48 RPWDNB (in), 49 PTOSEL (in), 50 RES0 (in), 51 VDD (power), 52 VSS (power), 53 RIN+ (in), 54 RIN- (in), 55 RRFB (in), 56 VSS (power), 57 VDD (power), 58 VSS (power), 59 VDD (power), 60 REN (in), 61 BISTEN (in), 62 BISTM (in), 63 RAOFF (in), 64 SLEW (in)

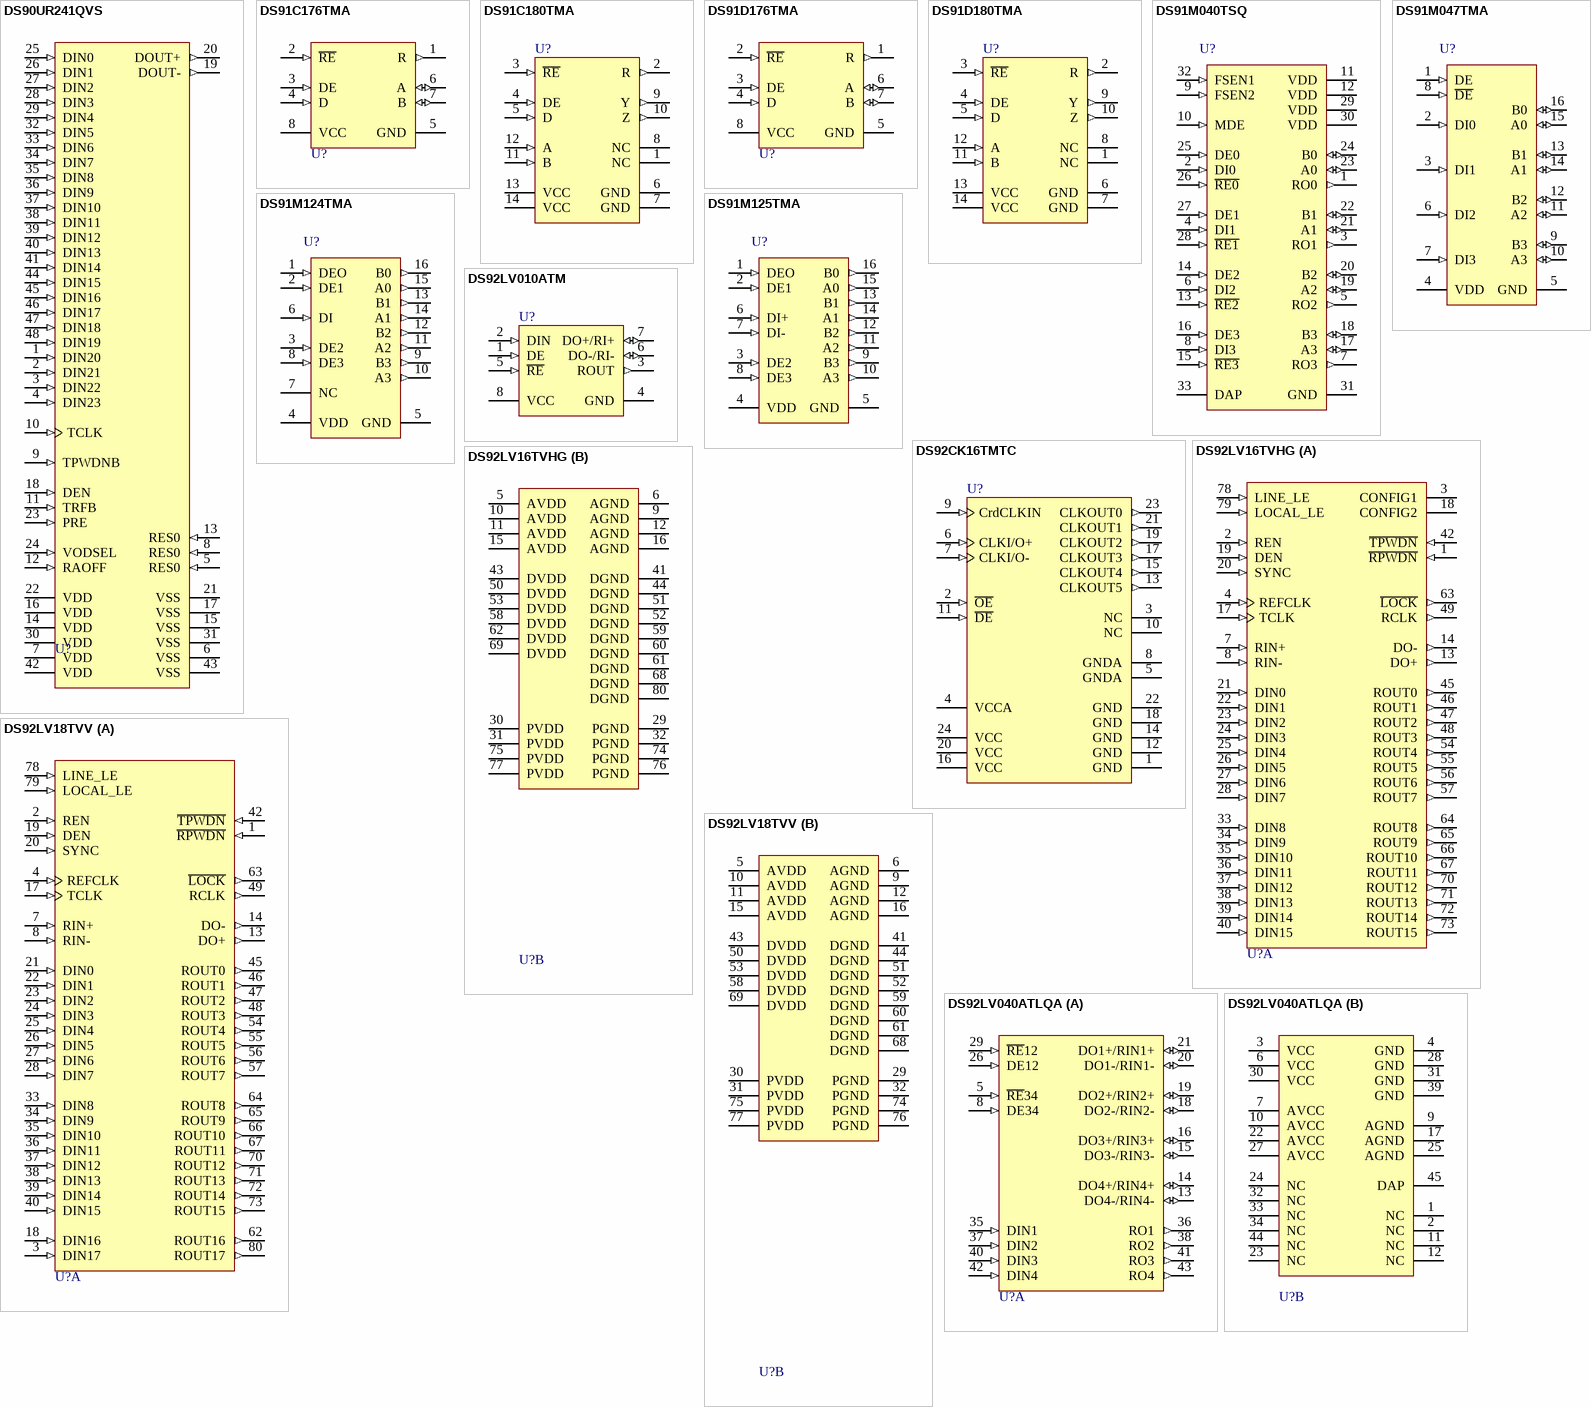
[diagram p22: symbols DS90UR241QVS to DS92LV040ATLQA]

## DS90UR241QVS
designator U?
5-43MHz DC- Balanced 24-Bit LVDS Serializer; PartNumber: DS90UR241QVS; Manufacturer: National Semiconductor; CompType: Interface IC; PackageTopMarking: NSUZXYTT*DS90UR24*1QVS; Published: 4-Dec-2008; DatasheetVersion: Jan-2008; PackageVersion: revA, Apr-2000; PackageReference: VBC48A; Publisher: Altium Limited; PackageDescription: TQFP, Jedec Metric, 7 x 7 x 1mm, 48 Lead, 0.5mm Pitch; RoHS: Y; PinCount: 48; Code_JEDEC: MS-026-ABC; ComponentLink1Description: DS90UR241 Datasheet; ComponentLink1URL: http://www.national.com/ds/DS/DS90UR241.pdf; ComponentLink2Description: DS90UR241 Web Page; ComponentLink2URL: http://www.national.com/pf/DS/DS90UR241.html; ComponentLink3Description: VBC48A Package Page; ComponentLink3URL: http://www.national.com/packaging/folders/vbc48a.html
footprint VBC48A_N (Thin QFP, 48-Leads, Body 7x7mm, Pitch 0.5mm, IPC Medium Density)
footprint VBC48A_L (Thin QFP, 48-Leads, Body 7x7mm, Pitch 0.5mm, IPC High Density)
footprint VBC48A_M (Thin QFP, 48-Leads, Body 7x7mm, Pitch 0.5mm, IPC Low Density)
pins: 1 DIN20 (in), 2 DIN21 (in), 3 DIN22 (in), 4 DIN23 (in), 5 RES0 (in), 6 VSS (power), 7 VDD (power), 8 RES0 (in), 9 TPWDNB (in), 10 TCLK (in), 11 TRFB (in), 12 RAOFF (in), 13 RES0 (in), 14 VDD (power), 15 VSS (power), 16 VDD (power), 17 VSS (power), 18 DEN (in), 19 DOUT- (out), 20 DOUT+ (out), 21 VSS (power), 22 VDD (power), 23 PRE (in), 24 VODSEL (in), 25 DIN0 (in), 26 DIN1 (in), 27 DIN2 (in), 28 DIN3 (in), 29 DIN4 (in), 30 VDD (power), 31 VSS (power), 32 DIN5 (in), 33 DIN6 (in), 34 DIN7 (in), 35 DIN8 (in), 36 DIN9 (in), 37 DIN10 (in), 38 DIN11 (in), 39 DIN12 (in), 40 DIN13 (in), 41 DIN14 (in), 42 VDD (power), 43 VSS (power), 44 DIN15 (in), 45 DIN16 (in), 46 DIN17 (in), 47 DIN18 (in), 48 DIN19 (in)

## DS91C176TMA
designator U?
100 MHz Single Channel M-LVDS Transceivers; PartNumber: DS91C176TMA; Manufacturer: National Semiconductor; CompType: Interface IC; PackageTopMarking: NSZXTT*DS91C*176MA; Published: 4-Dec-2008; DatasheetVersion: Feb-2008; PackageVersion: revL, Sep-2006; PackageReference: M08A; Publisher: Altium Limited; PackageDescription: SOIC Narrow, 4.9 x 3.9 x 1.45mm, 8 Lead, 1.27mm Pitch; RoHS: O; PinCount: 8; DigiKeyPartNumber: DS91C176TMA-ND; Code_JEDEC: MS-012-AA; Code_IPC: SOIC127P600-8; ComponentLink1Description: DS91C176 Datasheet; ComponentLink1URL: http://www.national.com/ds/DS/DS91C176.pdf; ComponentLink2Description: DS91C176 Web Page; ComponentLink2URL: http://www.national.com/pf/DS/DS91C176.html; ComponentLink3Description: M08A Package Page; ComponentLink3URL: http://www.national.com/packaging/folders/m08a.html
footprint M08A_N (SOIC, 8-Leads, Body 4.9x3.9mm, Pitch 1.27mm, IPC Medium Density)
footprint M08A_L (SOIC, 8-Leads, Body 4.9x3.9mm, Pitch 1.27mm, IPC High Density)
footprint M08A_M (SOIC, 8-Leads, Body 4.9x3.9mm, Pitch 1.27mm, IPC Low Density)
pins: 1 R (out), 2 ~{RE} (in), 3 DE (in), 4 D (in), 5 GND (power), 6 A (io), 7 B (io), 8 VCC (power)

## DS91C180TMA
designator U?
100 MHz M-LVDS Line Driver/Receiver Pair; PartNumber: DS91C180TMA; Manufacturer: National Semiconductor; CompType: Interface IC; PackageTopMarking: NSUZXYTT*DS91C180*TMA; Published: 4-Dec-2008; DatasheetVersion: Nov-2007; PackageVersion: revJ, Jan-1996; PackageReference: M14A; Publisher: Altium Limited; PackageDescription: Molded Package, S.O., .150in Wide, 14 Lead; RoHS: Y; PinCount: 14; DigiKeyPartNumber: DS91C180TMA-ND; Code_JEDEC: MS-012AB; Code_IPC: SOIC127P600-14; ComponentLink1Description: DS91C180 Datasheet; ComponentLink1URL: http://www.national.com/ds/DS/DS91C180.pdf; ComponentLink2Description: DS91C180 Web Page; ComponentLink2URL: http://www.national.com/pf/DS/DS91C180.html; ComponentLink3Description: M14A Package Page; ComponentLink3URL: http://www.national.com/packaging/folders/m14a.html
footprint M14A_N (SOIC, 14-Leads, Body 8.6x3.9mm, Pitch 1.27mm, IPC Medium Density)
footprint M14A_L (SOIC, 14-Leads, Body 8.6x3.9mm, Pitch 1.27mm, IPC High Density)
footprint M14A_M (SOIC, 14-Leads, Body 8.6x3.9mm, Pitch 1.27mm, IPC Low Density)
pins: 1 NC, 2 R (out), 3 ~{RE} (in), 4 DE (in), 5 D (in), 6 GND (power), 7 GND (power), 8 NC, 9 Y (out), 10 Z (out), 11 B (in), 12 A (in), 13 VCC (power), 14 VCC (power)

## DS91D176TMA
designator U?
100 MHz Single Channel M-LVDS Transceivers; PartNumber: DS91D176TMA; Manufacturer: National Semiconductor; CompType: Interface IC; PackageTopMarking: NSZXTT*DS91D*176MA; Published: 4-Dec-2008; DatasheetVersion: Feb-2008; PackageVersion: revL, Sep-2006; PackageReference: M08A; Publisher: Altium Limited; PackageDescription: SOIC Narrow, 4.9 x 3.9 x 1.45mm, 8 Lead, 1.27mm Pitch; RoHS: Y; PinCount: 8; DigiKeyPartNumber: DS91D176TMA-ND; Code_JEDEC: MS-012-AA; Code_IPC: SOIC127P600-8; ComponentLink1Description: DS91D176 Datasheet; ComponentLink1URL: http://www.national.com/ds/DS/DS91D176.pdf; ComponentLink2Description: DS91D176 Web Page; ComponentLink2URL: http://www.national.com/pf/DS/DS91D176.html; ComponentLink3Description: M08A Package Page; ComponentLink3URL: http://www.national.com/packaging/folders/m08a.html
footprint M08A_N (SOIC, 8-Leads, Body 4.9x3.9mm, Pitch 1.27mm, IPC Medium Density)
footprint M08A_L (SOIC, 8-Leads, Body 4.9x3.9mm, Pitch 1.27mm, IPC High Density)
footprint M08A_M (SOIC, 8-Leads, Body 4.9x3.9mm, Pitch 1.27mm, IPC Low Density)
pins: 1 R (out), 2 ~{RE} (in), 3 DE (in), 4 D (in), 5 GND (power), 6 A (io), 7 B (io), 8 VCC (power)

## DS91D180TMA
designator U?
100 MHz M-LVDS Line Driver/Receiver Pair; PartNumber: DS91D180TMA; Manufacturer: National Semiconductor; CompType: Interface IC; PackageTopMarking: NSUZXYTT*DS91D180*TMA; Published: 4-Dec-2008; DatasheetVersion: Nov-2007; PackageVersion: revJ, Jan-1996; PackageReference: M14A; Publisher: Altium Limited; PackageDescription: Molded Package, S.O., .150in Wide, 14 Lead; RoHS: Y; PinCount: 14; DigiKeyPartNumber: DS91D180TMA-ND; Code_JEDEC: MS-012AB; Code_IPC: SOIC127P600-14; ComponentLink1Description: DS91D180 Datasheet; ComponentLink1URL: http://www.national.com/ds/DS/DS91D180.pdf; ComponentLink2Description: DS91D180 Web Page; ComponentLink2URL: http://www.national.com/pf/DS/DS91D180.html; ComponentLink3Description: M14A Package Page; ComponentLink3URL: http://www.national.com/packaging/folders/m14a.html
footprint M14A_N (SOIC, 14-Leads, Body 8.6x3.9mm, Pitch 1.27mm, IPC Medium Density)
footprint M14A_L (SOIC, 14-Leads, Body 8.6x3.9mm, Pitch 1.27mm, IPC High Density)
footprint M14A_M (SOIC, 14-Leads, Body 8.6x3.9mm, Pitch 1.27mm, IPC Low Density)
pins: 1 NC, 2 R (out), 3 ~{RE} (in), 4 DE (in), 5 D (in), 6 GND (power), 7 GND (power), 8 NC, 9 Y (out), 10 Z (out), 11 B (in), 12 A (in), 13 VCC (power), 14 VCC (power)

## DS91M040TSQ
designator U?
125 MHz Quad M-LVDS Transceiver; PartNumber: DS91M040TSQ; Manufacturer: National Semiconductor; CompType: Interface IC; PackageTopMarking: NS*UZXYTT*M040TS; Published: 4-Dec-2008; DatasheetVersion: Oct-2008; PackageVersion: revA, Jul-2004; PackageReference: SQA32A; Publisher: Altium Limited; RoHS: Y; PinCount: 32; DigiKeyPartNumber: DS91M040TSQCT-ND; ComponentLink1Description: DS91M040 Datasheet; ComponentLink1URL: http://www.national.com/ds/DS/DS91M040.pdf; ComponentLink2Description: DS91M040 Web Page; ComponentLink2URL: http://www.national.com/pf/DS/DS91M040.html; ComponentLink3Description: SQA32A Package Page; ComponentLink3URL: http://www.national.com/packaging/folders/sqa32a.html
footprint SQA32A (QFN, 32-Leads, Body 5x5mm, Pitch 0.5mm, NSC Recommended)
pins: 1 RO0 (out), 2 DI0 (in), 3 RO1 (out), 4 DI1 (in), 5 RO2 (out), 6 DI2 (in), 7 RO3 (out), 8 DI3 (in), 9 FSEN2 (in), 10 MDE (in), 11 VDD (power), 12 VDD (power), 13 ~{RE2} (in), 14 DE2 (in), 15 ~{RE3} (in), 16 DE3 (in), 17 A3 (io), 18 B3 (io), 19 A2 (io), 20 B2 (io), 21 A1 (io), 22 B1 (io), 23 A0 (io), 24 B0 (io), 25 DE0 (in), 26 ~{RE0} (in), 27 DE1 (in), 28 ~{RE1} (in), 29 VDD (power), 30 VDD (power), 31 GND (power), 32 FSEN1 (in), 33 DAP

## DS91M047TMA
designator U?
125 MHz Quad M-LVDS Line Driver; PartNumber: DS91M047TMA; Manufacturer: National Semiconductor; CompType: Interface IC; PackageTopMarking: NSUZXYTT*DS91M047*TMA; Published: 4-Dec-2008; DatasheetVersion: Oct-2008; PackageVersion: revJ, Aug-1995; PackageReference: M16A; Publisher: Altium Limited; RoHS: Y; PinCount: 16; Code_JEDEC: MS-012-AC; Code_IPC: SOIC127P600-16; ComponentLink1Description: DS91M047 Datasheet; ComponentLink1URL: http://www.national.com/ds/DS/DS91M047.pdf; ComponentLink2Description: DS91M047 Web Page; ComponentLink2URL: http://www.national.com/pf/DS/DS91M047.html; ComponentLink3Description: M16A Package Page; ComponentLink3URL: http://www.national.com/packaging/folders/m16a.html
footprint M16A_N (SOIC, 16-Leads, Body 9.9x3.9mm, Pitch 1.27mm, IPC Medium Density)
footprint M16A_L (SOIC, 16-Leads, Body 9.9x3.9mm, Pitch 1.27mm, IPC High Density)
footprint M16A_M (SOIC, 16-Leads, Body 9.9x3.9mm, Pitch 1.27mm, IPC Low Density)
pins: 1 DE (in), 2 DI0 (in), 3 DI1 (in), 4 VDD (power), 5 GND (power), 6 DI2 (in), 7 DI3 (in), 8 ~{DE} (in), 9 B3 (io), 10 A3 (io), 11 A2 (io), 12 B2 (io), 13 B1 (io), 14 A1 (io), 15 A0 (io), 16 B0 (io)

## DS91M124TMA
designator U?
125 MHz 1:4 M-LVDS Repeater with LVCMOS Input; PartNumber: DS91M124TMA; Manufacturer: National Semiconductor; CompType: Interface IC; PackageTopMarking: NSUZXYTT*DS91M124*TMA; Published: 4-Dec-2008; DatasheetVersion: Oct-2008; PackageVersion: revJ, Aug-1995; PackageReference: M16A; Publisher: Altium Limited; RoHS: Y; PinCount: 16; Code_JEDEC: MS-012-AC; Code_IPC: SOIC127P600-16; ComponentLink1Description: DS91M124 Datasheet; ComponentLink1URL: http://www.national.com/ds/DS/DS91M124.pdf; ComponentLink2Description: DS91M124 Web Page; ComponentLink2URL: http://www.national.com/pf/DS/DS91M124.html; ComponentLink3Description: M16A Package Page; ComponentLink3URL: http://www.national.com/packaging/folders/m16a.html
footprint M16A_N (SOIC, 16-Leads, Body 9.9x3.9mm, Pitch 1.27mm, IPC Medium Density)
footprint M16A_L (SOIC, 16-Leads, Body 9.9x3.9mm, Pitch 1.27mm, IPC High Density)
footprint M16A_M (SOIC, 16-Leads, Body 9.9x3.9mm, Pitch 1.27mm, IPC Low Density)
pins: 1 DEO (in), 2 DE1 (in), 3 DE2 (in), 4 VDD (power), 5 GND (power), 6 DI (in), 7 NC, 8 DE3 (in), 9 B3 (out), 10 A3 (out), 11 A2 (out), 12 B2 (out), 13 B1 (out), 14 A1 (out), 15 A0 (out), 16 B0 (out)

## DS91M125TMA
designator U?
125 MHz 1:4 M-LVDS Repeater with LVDS Input; PartNumber: DS91M125TMA; Manufacturer: National Semiconductor; CompType: Interface IC; PackageTopMarking: NSUZXYTT*DS91M125*TMA; Published: 4-Dec-2008; DatasheetVersion: Oct-2008; PackageVersion: revJ, Aug-1995; PackageReference: M16A; Publisher: Altium Limited; RoHS: Y; PinCount: 16; Code_JEDEC: MS-012-AC; Code_IPC: SOIC127P600-16; ComponentLink1Description: DS91M125 Datasheet; ComponentLink1URL: http://www.national.com/ds/DS/DS91M125.pdf; ComponentLink2Description: DS91M125 Web Page; ComponentLink2URL: http://www.national.com/pf/DS/DS91M125.html; ComponentLink3Description: M16A Package Page; ComponentLink3URL: http://www.national.com/packaging/folders/m16a.html
footprint M16A_N (SOIC, 16-Leads, Body 9.9x3.9mm, Pitch 1.27mm, IPC Medium Density)
footprint M16A_L (SOIC, 16-Leads, Body 9.9x3.9mm, Pitch 1.27mm, IPC High Density)
footprint M16A_M (SOIC, 16-Leads, Body 9.9x3.9mm, Pitch 1.27mm, IPC Low Density)
pins: 1 DEO (in), 2 DE1 (in), 3 DE2 (in), 4 VDD (power), 5 GND (power), 6 DI+ (in), 7 DI- (in), 8 DE3 (in), 9 B3 (out), 10 A3 (out), 11 A2 (out), 12 B2 (out), 13 B1 (out), 14 A1 (out), 15 A0 (out), 16 B0 (out)

## DS92CK16TMTC
designator U?
3V BLVDS 1 to 6 Clock Buffer/Bus Transceiver; PartNumber: DS92CK16TMTC; Manufacturer: National Semiconductor; CompType: Interface IC; PackageTopMarking: NSUZXYTT*DS92CK16T*MTC; Published: 4-Dec-2008; DatasheetVersion: Apr-2006; PackageVersion: revE, Mar-2003; PackageReference: MTC24; Publisher: Altium Limited; PackageDescription: Molded TSSOP, Jedec, 7.8 x 4.4 x 0.9mm Body, 24 Lead, 0.65mm Pitch; RoHS: O; PinCount: 24; DigiKeyPartNumber: DS92CK16TMTC-ND; Code_JEDEC: MO-153-AD; ComponentLink1Description: DS92CK16 Datasheet; ComponentLink1URL: http://www.national.com/ds/DS/DS92CK16.pdf; ComponentLink2Description: DS92CK16 Web Page; ComponentLink2URL: http://www.national.com/pf/DS/DS92CK16.html; ComponentLink3Description: MTC24 Package Page; ComponentLink3URL: http://www.national.com/packaging/folders/mtc24.html
footprint MTC24_N (TSOP, 24-Leads, Body 7.8x4.4mm, Pitch 0.65mm, IPC Medium Density)
footprint MTC24_L (TSOP, 24-Leads, Body 7.8x4.4mm, Pitch 0.65mm, IPC High Density)
footprint MTC24_M (TSOP, 24-Leads, Body 7.8x4.4mm, Pitch 0.65mm, IPC Low Density)
pins: 1 GND (power), 2 ~{OE} (in), 3 NC, 4 VCCA (power), 5 GNDA (power), 6 CLKI/O+ (in), 7 CLKI/O- (in), 8 GNDA (power), 9 CrdCLKIN (in), 10 NC, 11 ~{DE} (in), 12 GND (power), 13 CLKOUT5 (out), 14 GND (power), 15 CLKOUT4 (out), 16 VCC (power), 17 CLKOUT3 (out), 18 GND (power), 19 CLKOUT2 (out), 20 VCC (power), 21 CLKOUT1 (out), 22 GND (power), 23 CLKOUT0 (out), 24 VCC (power)

## DS92LV010ATM
designator U?
Bus LVDS 3.3/5.0V Single Transceiver; PartNumber: DS92LV010ATM; Manufacturer: National Semiconductor; CompType: Interface IC; PackageTopMarking: NSZXTT*LV010*ATM; Published: 4-Dec-2008; DatasheetVersion: Nov-2007; PackageVersion: revL, Sep-2006; PackageReference: M08A; Publisher: Altium Limited; PackageDescription: SOIC Narrow, 4.9 x 3.9 x 1.45mm, 8 Lead, 1.27mm Pitch; RoHS: O; PinCount: 8; DigiKeyPartNumber: DS92LV010ATM-ND; Code_JEDEC: MS-012-AA; Code_IPC: SOIC127P600-8; ComponentLink1Description: DS92LV010A Datasheet; ComponentLink1URL: http://www.national.com/ds/DS/DS92LV010A.pdf; ComponentLink2Description: DS92LV010A Web Page; ComponentLink2URL: http://www.national.com/pf/DS/DS92LV010A.html; ComponentLink3Description: M08A Package Page; ComponentLink3URL: http://www.national.com/packaging/folders/m08a.html
footprint M08A_N (SOIC, 8-Leads, Body 4.9x3.9mm, Pitch 1.27mm, IPC Medium Density)
footprint M08A_L (SOIC, 8-Leads, Body 4.9x3.9mm, Pitch 1.27mm, IPC High Density)
footprint M08A_M (SOIC, 8-Leads, Body 4.9x3.9mm, Pitch 1.27mm, IPC Low Density)
pins: 1 DE (in), 2 DIN (in), 3 ROUT (out), 4 GND (power), 5 ~{RE} (in), 6 DO-/RI- (io), 7 DO+/RI+ (io), 8 VCC (power)

## DS92LV16TVHG
designator U?
16-Bit Bus LVDS Serializer/Deserializer - 25 - 80 MHz; PartNumber: DS92LV16TVHG; Manufacturer: National Semiconductor; CompType: Interface IC; PackageTopMarking: NSUZXYTT*DS92LV16TVHG*BBBBB; Published: 4-Dec-2008; DatasheetVersion: Feb-2002; PackageVersion: revE, Feb-2005; PackageReference: VHG80A; Publisher: Altium Limited; PackageDescription: LQFP, Jedec, Metric, 12 x 12 x 1.4mm, 80 Lead, 0.5mm Pitch; RoHS: O; PinCount: 80; DigiKeyPartNumber: DS92LV16TVHG-ND; Code_JEDEC: MS-026-BDD; ComponentLink1Description: DS92LV16 Datasheet; ComponentLink1URL: http://www.national.com/ds/DS/DS92LV16.pdf; ComponentLink2Description: DS92LV16 Web Page; ComponentLink2URL: http://www.national.com/pf/DS/DS92LV16.html; ComponentLink3Description: VHG80A Package Page; ComponentLink3URL: http://www.national.com/packaging/folders/vhg80a.html
footprint VHG80A_N (Thin QFP, 80-Leads, Body 12x12mm, Pitch 0.5mm, IPC Medium Density)
footprint VHG80A_L (Thin QFP, 80-Leads, Body 12x12mm, Pitch 0.5mm, IPC High Density)
footprint VHG80A_M (Thin QFP, 80-Leads, Body 12x12mm, Pitch 0.5mm, IPC Low Density)
part A pins: 1 ~{RPWDN} (in), 2 REN (in), 3 CONFIG1, 4 REFCLK (in), 7 RIN+ (in), 8 RIN- (in), 13 DO+ (out), 14 DO- (out), 17 TCLK (in), 18 CONFIG2, 19 DEN (in), 20 SYNC (in), 21 DIN0 (in), 22 DIN1 (in), 23 DIN2 (in), 24 DIN3 (in), 25 DIN4 (in), 26 DIN5 (in), 27 DIN6 (in), 28 DIN7 (in), 33 DIN8 (in), 34 DIN9 (in), 35 DIN10 (in), 36 DIN11 (in), 37 DIN12 (in), 38 DIN13 (in), 39 DIN14 (in), 40 DIN15 (in), 42 ~{TPWDN} (in), 45 ROUT0 (out), 46 ROUT1 (out), 47 ROUT2 (out), 48 ROUT3 (out), 49 RCLK (out), 54 ROUT4 (out), 55 ROUT5 (out), 56 ROUT6 (out), 57 ROUT7 (out), 63 ~{LOCK} (out), 64 ROUT8 (out), 65 ROUT9 (out), 66 ROUT10 (out), 67 ROUT11 (out), 70 ROUT12 (out), 71 ROUT13 (out), 72 ROUT14 (out), 73 ROUT15 (out), 78 LINE_LE (in), 79 LOCAL_LE (in)
part B pins: 5 AVDD (power), 6 AGND (power), 9 AGND (power), 10 AVDD (power), 11 AVDD (power), 12 AGND (power), 15 AVDD (power), 16 AGND (power), 29 PGND (power), 30 PVDD (power), 31 PVDD (power), 32 PGND (power), 41 DGND (power), 43 DVDD (power), 44 DGND (power), 50 DVDD (power), 51 DGND (power), 52 DGND (power), 53 DVDD (power), 58 DVDD (power), 59 DGND (power), 60 DGND (power), 61 DGND (power), 62 DVDD (power), 68 DGND (power), 69 DVDD (power), 74 PGND (power), 75 PVDD (power), 76 PGND (power), 77 PVDD (power), 80 DGND (power)

## DS92LV18TVV
designator U?
18-Bit Bus LVDS Serializer/Deserializer - 15 - 66 MHz; PartNumber: DS92LV18TVV; Manufacturer: National Semiconductor; CompType: Interface IC; PackageTopMarking: NSUZXYTT*DS92LV18TVV*BBBBB; Published: 4-Dec-2008; DatasheetVersion: Jun-2006; PackageVersion: revE, Feb-2005; PackageReference: VHG80A; Publisher: Altium Limited; PackageDescription: LQFP, Jedec, Metric, 12 x 12 x 1.4mm, 80 Lead, 0.5mm Pitch; RoHS: O; PinCount: 80; DigiKeyPartNumber: DS92LV18TVV-ND; Code_JEDEC: MS-026-BDD; ComponentLink1Description: DS92LV18 Datasheet; ComponentLink1URL: http://www.national.com/ds/DS/DS92LV18.pdf; ComponentLink2Description: DS92LV18 Web Page; ComponentLink2URL: http://www.national.com/pf/DS/DS92LV18.html; ComponentLink3Description: VHG80A Package Page; ComponentLink3URL: http://www.national.com/packaging/folders/vhg80a.html
footprint VHG80A_N (Thin QFP, 80-Leads, Body 12x12mm, Pitch 0.5mm, IPC Medium Density)
footprint VHG80A_L (Thin QFP, 80-Leads, Body 12x12mm, Pitch 0.5mm, IPC High Density)
footprint VHG80A_M (Thin QFP, 80-Leads, Body 12x12mm, Pitch 0.5mm, IPC Low Density)
part A pins: 1 ~{RPWDN} (in), 2 REN (in), 3 DIN17 (in), 4 REFCLK (in), 7 RIN+ (in), 8 RIN- (in), 13 DO+ (out), 14 DO- (out), 17 TCLK (in), 18 DIN16 (in), 19 DEN (in), 20 SYNC (in), 21 DIN0 (in), 22 DIN1 (in), 23 DIN2 (in), 24 DIN3 (in), 25 DIN4 (in), 26 DIN5 (in), 27 DIN6 (in), 28 DIN7 (in), 33 DIN8 (in), 34 DIN9 (in), 35 DIN10 (in), 36 DIN11 (in), 37 DIN12 (in), 38 DIN13 (in), 39 DIN14 (in), 40 DIN15 (in), 42 ~{TPWDN} (in), 45 ROUT0 (out), 46 ROUT1 (out), 47 ROUT2 (out), 48 ROUT3 (out), 49 RCLK (out), 54 ROUT4 (out), 55 ROUT5 (out), 56 ROUT6 (out), 57 ROUT7 (out), 62 ROUT16 (out), 63 ~{LOCK} (out), 64 ROUT8 (out), 65 ROUT9 (out), 66 ROUT10 (out), 67 ROUT11 (out), 70 ROUT12 (out), 71 ROUT13 (out), 72 ROUT14 (out), 73 ROUT15 (out), 78 LINE_LE (in), 79 LOCAL_LE (in), 80 ROUT17 (out)
part B pins: 5 AVDD (power), 6 AGND (power), 9 AGND (power), 10 AVDD (power), 11 AVDD (power), 12 AGND (power), 15 AVDD (power), 16 AGND (power), 29 PGND (power), 30 PVDD (power), 31 PVDD (power), 32 PGND (power), 41 DGND (power), 43 DVDD (power), 44 DGND (power), 50 DVDD (power), 51 DGND (power), 52 DGND (power), 53 DVDD (power), 58 DVDD (power), 59 DGND (power), 60 DGND (power), 61 DGND (power), 68 DGND (power), 69 DVDD (power), 74 PGND (power), 75 PVDD (power), 76 PGND (power), 77 PVDD (power)